# Altium integrated library J-Crystal.IntLib: 102 symbols
Pins are listed as number, name and electrical type; pins without a type are passive.

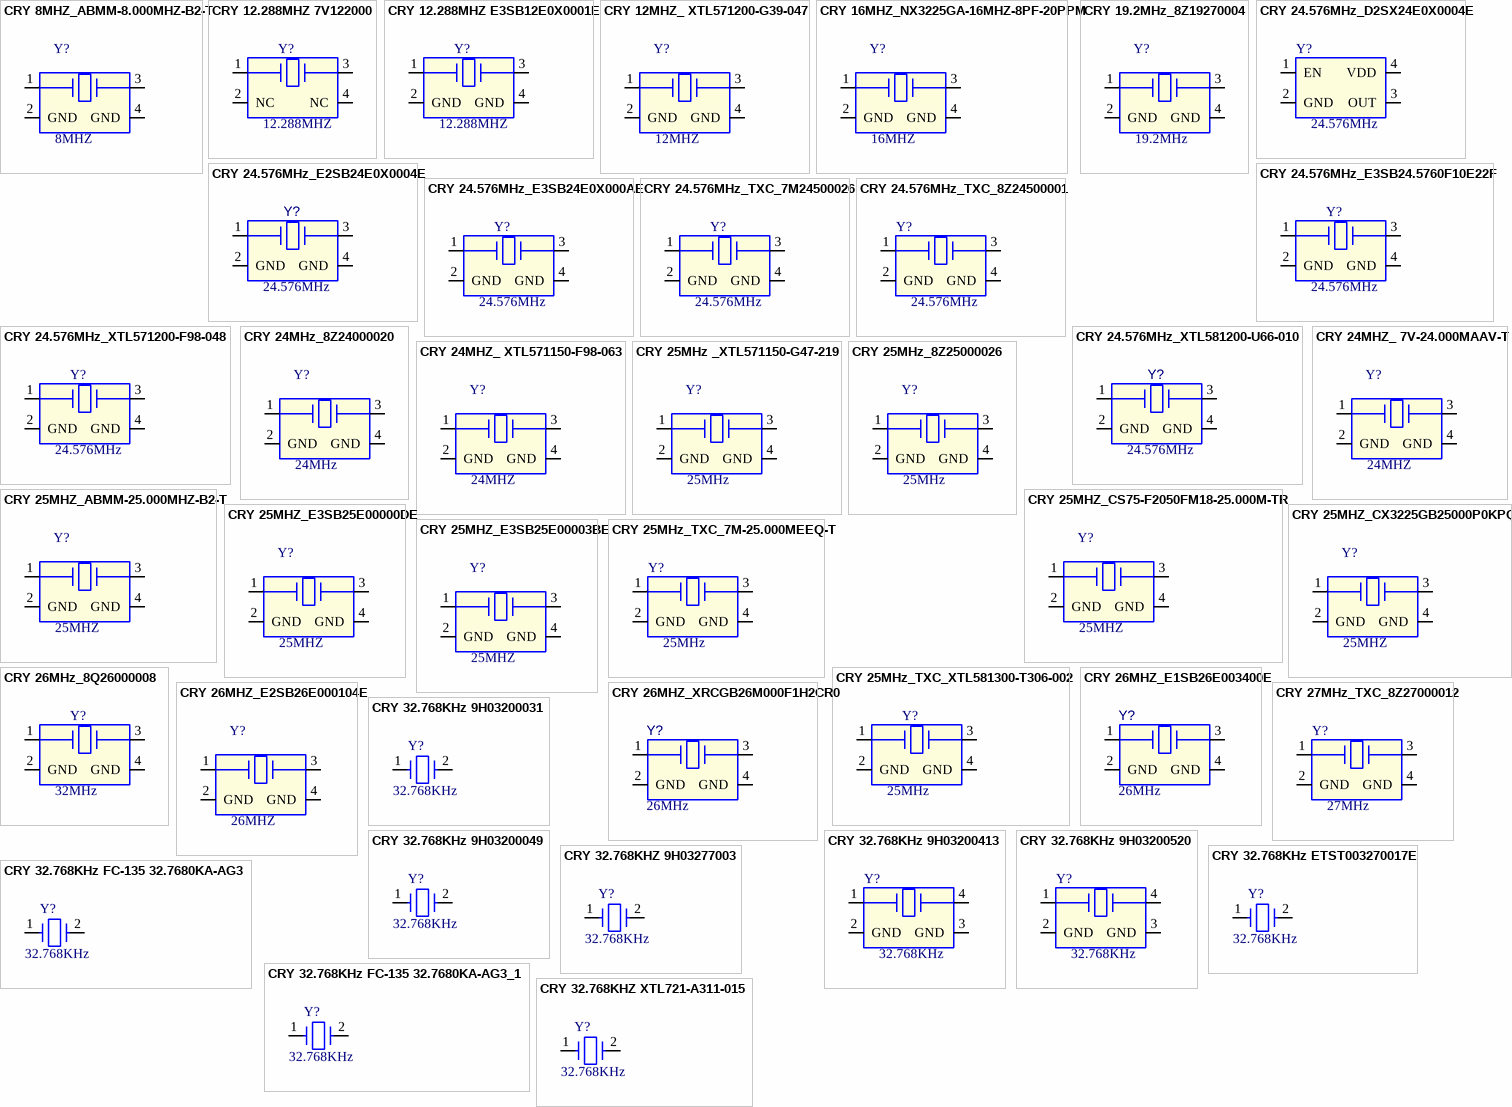
[diagram p0: symbols CRY 8MHZ_ABMM-8.000MHZ-B2-T to CRY 32.768KHZ XTL721-A311-015]

## CRY 8MHZ_ABMM-8.000MHZ-B2-T
designator Y?  Frequency: 8MHZ
CRYSTAL 8MHZ; MFG Part: ABMM-8.000MHZ-B2-T; MFG: ABRACON; CREATE_NAME: Nathan; DIP&SMD: SMD; SAP: *; Vendor Code: *; Vendor Name: *; Frequency Tolerance: *; Eqivalent resistance: *; Type: Crystal; Capacitance: *; CREATE_TIME: 03-Mar-2021
footprint CRY ABMM SMD 7.0X5.0X1.3 (SMD 7.2 Max. X5.2 Max..X1.3 Max.)
pins: 1 Xtal, 2 GND, 3 Xtal, 4 GND

## CRY 12.288MHZ 7V122000
designator Y?, comment Frequency: 12.288MHZ  (hidden comment: T690900013300)
CRYSTAL 12.288MH SMD32 TXC 7V1220 K; MFG Part: 7V122000; CREATE_NAME: Nathan; DIP&SMD: SMD; SAP: T690900013300; MFG: TXC; Vendor Code: *; Vendor Name: *; Frequency Tolerance: *; Eqivalent resistance: *; Type: Crystal; Capacitance: *; CREATE_TIME: 10-Nov-2017
footprint SMD3225 (CHIP OSCILLATOR SMD3225\3.2*2.5MM)
pins: 1, 2 NC, 3, 4 NC

## CRY 12.288MHZ E3SB12E0X0001E
designator Y?  Frequency: 12.288MHZ  (hidden comment: *)
CRYSTAL 12.288MH SMD32 E3SB12E0X0001E; MFG: HOSONIC; CREATE_NAME: Nathan; DIP&SMD: SMD; SAP: *; MFG Part: E3SB12E0X0001E; Vendor Code: *; Vendor Name: *; Frequency Tolerance: *; Eqivalent resistance: *; Type: Crystal; Capacitance: *; CREATE_TIME: 21-Jul-2020
footprint SMD3225 (CHIP OSCILLATOR SMD3225\3.2*2.5MM)
pins: 1, 2 GND, 3, 4 GND

## CRY 12MHZ_ XTL571200-G39-047
designator Y?, comment Frequency: 12MHZ  (hidden comment: T690900009300)
CERAMAIC 12MHZ SX322 SIWARD XTL571 H; MFG Part: XTL571200-G39-047; CREATE_NAME: Nathan; DIP&SMD: SMD; SAP: T690900009300; MFG: SIWARD; Vendor Code: *; Vendor Name: *; Frequency Tolerance: *; Eqivalent resistance: *; Type: Crystal; Capacitance: *; CREATE_TIME: 15-Mar-2017
footprint SMD3225 (CHIP OSCILLATOR SMD3225\3.2*2.5MM)
pins: 1, 2 GND, 3, 4 GND

## CRY 16MHZ_NX3225GA-16MHZ-8PF-20PPM
designator Y?, comment Frequency: 16MHZ  (hidden comment: T690900000400)
CRYSTAL 16MHZ SMD NDK NX3225 K; MFG Part: NX3225GA-16MHZ-8PF-20PPM; CREATE_NAME: Nathan; SAP: T690900000400; MFG: NDK; Vendor Code: *; Vendor Name: *; Frequency Tolerance: *; Eqivalent resistance: *; Type: Crystal; Capacitance: *; CREATE_TIME: 29-Dec-2020; DIP&SMD: SMD
footprint SMD3225 (CHIP OSCILLATOR SMD3225\3.2*2.5MM)
pins: 1, 2 GND, 3, 4 GND

## CRY 19.2MHz_8Z19270004
designator Y?, comment Frequency: 19.2MHz  (hidden comment: T690900017400)
CRYSTAL 19.2MHZ 2520 TXC 8Z1927 K; MFG Part: 8Z19270004; MFG: TXC CORP; CREATE_NAME: Nathan; DIP&SMD: SMD; SAP: T690900017400; Vendor Code: *; Vendor Name: *; Frequency Tolerance: *; Eqivalent resistance: *; Type: Crystal; Capacitance: *; CREATE_TIME: 17-Aug-2018
footprint SMD2520 (OSC Body 2.5mm X 2.0mm)
pins: 1, 2 GND, 3, 4 GND

## CRY 24.576MHz_D2SX24E0X0004E
designator Y?, comment Frequency: 24.576MHz  (hidden comment: T690900023000)
OSC 24.576MH SMD2520 +/-25ppm HOSONIC D2SX24E0X0004E  L; Frequency Tolerance: 25ppm; CREATE_NAME: Tom; DIP&SMD: SMD; SAP: T690900023000; MFG Part: D2SX24E0X0004E; MFG: HOSONIC; Vendor Code: *; Vendor Name: *; Type: Crystal; CREATE_TIME: 11-May-2020
footprint SMD2520 (OSC Body 2.5mm X 2.0mm)
pins: 1 EN, 2 GND, 3 OUT, 4 VDD

## CRY 24.576MHz_E2SB24E0X0004E
designator Y?  Frequency: 24.576MHz
CHIP CRYSTAL 24.576MHZ SMD2520; MFG Part: E2SB24E0X0004E; MFG: HOSONIC; CREATE_NAME: Nathan; DIP&SMD: SMD; SAP: *; Vendor Code: *; Vendor Name: *; Type: Crystal; CREATE_TIME: 29-Oct-2020
footprint SMD2520 (OSC Body 2.5mm X 2.0mm)
pins: 1, 2 GND, 3, 4 GND

## CRY 24.576MHz_E3SB24.5760F10E22F
designator Y?  Frequency: 24.576MHz  (hidden comment: *)
CRYSTAL 24.576MH 3225 E3SB24.5760F10E22F; MFG: TXC; Frequency Tolerance: Hosonic; CREATE_NAME: Nathan; DIP&SMD: SMD; SAP: *; MFG Part: E3SB24.5760F10E22F; Vendor Code: *; Vendor Name: *; Type: Crystal; CREATE_TIME: 08-Jul-2020
footprint SMD3225 (CHIP OSCILLATOR SMD3225\3.2*2.5MM)
pins: 1, 2 GND, 3, 4 GND

## CRY 24.576MHz_E3SB24E0X000AE
designator Y?  Frequency: 24.576MHz
CRYSTAL 24.576MH 3225 E3SB24E0X000AE; MFG: HOSONIC; CREATE_NAME: Nathan; DIP&SMD: SMD; SAP: *; MFG Part: E3SB24E0X000AE; Vendor Code: *; Vendor Name: *; Frequency Tolerance: *; Type: Crystal; CREATE_TIME: 12-Nov-2020
footprint SMD3225 (CHIP OSCILLATOR SMD3225\3.2*2.5MM)
pins: 1, 2 GND, 3, 4 GND

## CRY 24.576MHz_TXC_7M24500026
designator Y?, comment Frequency: 24.576MHz  (hidden comment: T690900019400)
CRYSTAL 24.576MH 3225 TXC 7M2450 L; MFG Part: 7M24500026; Frequency Tolerance: +/-30ppm; CREATE_NAME: Nathan; DIP&SMD: SMD; SAP: T690900019400; MFG: TXC; Vendor Code: *; Vendor Name: *; Type: Crystal; CREATE_TIME: 16-Apr-2019
footprint SMD3225 (CHIP OSCILLATOR SMD3225\3.2*2.5MM)
pins: 1, 2 GND, 3, 4 GND

## CRY 24.576MHz_TXC_8Z24500001
designator Y?, comment Frequency: 24.576MHz  (hidden comment: T690900023400)
CRISTAL 24.576MH SMD TXC 8Z2450 L; MFG Part: 8Z24500001; Frequency Tolerance: +/-20ppm; CREATE_NAME: Nathan; SAP: T690900023400; MFG: TXC; Vendor Code: *; Vendor Name: *; Type: Crystal; CREATE_TIME: 28-May-2020; DIP&SMD: SMD
footprint SMD2520 (OSC Body 2.5mm X 2.0mm)
pins: 1, 2 GND, 3, 4 GND

## CRY 24.576MHz_XTL571200-F98-048
designator Y?, comment Frequency: 24.576MHz  (hidden comment: T690900003500)
CRYSTAL 24.576MH SMD SIWARD XTL571200-F98-048 G; CREATE_NAME: Nathan; SAP: T690900003500; MFG Part: XTL571200-F98-048; MFG: SIWARD; Vendor Code: *; Vendor Name: *; Frequency Tolerance: *; Eqivalent resistance: *; Type: Crystal; Capacitance: *; CREATE_TIME: 21-Feb-2017; DIP&SMD: SMD
footprint SMD3225 (CHIP OSCILLATOR SMD3225\3.2*2.5MM)
pins: 1, 2 GND, 3, 4 GND

## CRY 24.576MHz_XTL581200-U66-010
designator Y?, comment Frequency: 24.576MHz  (hidden comment: T690900007200)
CRYSTAL 24.576 M SX-25 SIWARD XTL581 L; MFG Part: XTL581200-U66-010; CREATE_NAME: Nathan; DIP&SMD: SMD; SAP: T690900007200; Vendor Code: *; Vendor Name: *; MFG: SIWARD; Type: Crystal; CREATE_TIME: 13-MAR-2017
footprint SMD2520 (OSC Body 2.5mm X 2.0mm)
pins: 1, 2 GND, 3, 4 GND

## CRY 24MHz_8Z24000020
designator Y?, comment Frequency: 24MHz  (hidden comment: T690900019100)
CRYSTAL 24MHZ 2520 TXC 8Z2400 L; MFG Part: 8Z24000020; Frequency Tolerance: +/-10ppm; Eqivalent resistance: 50 ohm; Load Capacitance: 10pF; CREATE_NAME: Nathan; DIP&SMD: SMD; SAP: T690900019100; MFG: TXC; Vendor Code: *; Vendor Name: *; Type: Crystal; CREATE_TIME: 02-Apr-2019
footprint SMD2520 (OSC Body 2.5mm X 2.0mm)
pins: 1, 2 GND, 3, 4 GND

## CRY 24MHZ_ 7V-24.000MAAV-T
designator Y?  Frequency: 24MHZ  (hidden comment: *)
XTL, 24MHZ, 30PPM, 8PF, SM; MFG Part: 7V-24.000MAAV-T; MFG: TXC; CREATE_NAME: Nathan; DIP&SMD: SMD; SAP: *; Vendor Code: *; Vendor Name: *; Frequency Tolerance: *; Eqivalent resistance: *; Type: Crystal; Capacitance: *; CREATE_TIME: 27-Aug-2020
footprint SMD3225 (CHIP OSCILLATOR 11.2896MHZ SMD3225 +/-25ppm)
pins: 1, 2 GND, 3, 4 GND

## CRY 24MHZ_ XTL571150-F98-063
designator Y?, comment Frequency: 24MHZ  (hidden comment: T690900009100)
CERAMAIC 24MHZ SX322 SIWARD XTL571 H; MFG Part: XTL571150-F98-063; CREATE_NAME: Nathan; DIP&SMD: SMD; SAP: T690900009100; MFG: SIWARD; Vendor Code: *; Vendor Name: *; Frequency Tolerance: *; Eqivalent resistance: *; Type: Crystal; Capacitance: *; CREATE_TIME: 15-Mar-2017
footprint SMD3225 (CHIP OSCILLATOR 11.2896MHZ SMD3225 +/-25ppm)
pins: 1, 2 GND, 3, 4 GND

## CRY 25MHz _XTL571150-G47-219
designator Y?, comment Frequency: 25MHz  (hidden comment: T690900009200)
CERAMAIC 25MHZ SX322 SIWARD XTL571 L; MFG Part: XTL571150-G47-219; CREATE_NAME: Nathan; DIP&SMD: SMD; SAP: T690900009200; MFG: SIWARD; Vendor Code: *; Vendor Name: *; Frequency Tolerance: *; Eqivalent resistance: *; Type: Crystal; Capacitance: *; CREATE_TIME: 15-Mar-2017
footprint SMD3225 (CHIP OSCILLATOR 11.2896MHZ SMD3225 +/-25ppm)
pins: 1, 2 GND, 3, 4 GND

## CRY 25MHz_8Z25000026
designator Y?, comment Frequency: 25MHz  (hidden comment: T690900016700)
CRISTAL 25MHZ SMD TXC 8Z2500 K; MFG Part: 8Z25000026; MFG: TXC CORP; CREATE_NAME: Nathan; SAP: T690900016700; Vendor Code: *; Vendor Name: *; Frequency Tolerance: *; Eqivalent resistance: *; Type: Crystal; Capacitance: *; CREATE_TIME: 17-July-2018; DIP&SMD: SMD
footprint SMD2520 (OSC Body 2.5mm X 2.0mm)
pins: 1, 2 GND, 3, 4 GND

## CRY 25MHZ_ABMM-25.000MHZ-B2-T
designator Y?  Frequency: 25MHZ  (hidden comment: *)
CRYSTAL 25MHZ; MFG Part: ABMM-25.000MHZ-B2-T; MFG: ABRACON; CREATE_NAME: Nathan; DIP&SMD: SMD; SAP: *; Vendor Code: *; Vendor Name: *; Frequency Tolerance: *; Eqivalent resistance: *; Type: Crystal; Capacitance: *; CREATE_TIME: 11-Sep-2020
footprint CRY ABMM SMD 7.0X5.0X1.3 (SMD 7.2 Max. X5.2 Max..X1.3 Max.)
pins: 1 Xtal, 2 GND, 3 Xtal, 4 GND

## CRY 25MHZ_CS75-F2050FM18-25.000M-TR
designator Y?  Frequency: 25MHZ
CS75-F2050FM18-25.000M-TR; MFG: Transko Electronics; CREATE_NAME: Nathan; DIP&SMD: SMD; SAP: *; MFG Part: CS75-F2050FM18-25.000M-TR; Vendor Code: *; Vendor Name: *; Frequency Tolerance: *; Eqivalent resistance: *; Type: Crystal; Capacitance: *; CREATE_TIME: 20-Jan-2021
footprint CRY CS75 SMD 7.0X5.0X1.1 (MINIATURE CERAMIC SMD CRYSTAL (7.0 x 5.0 x 1.1mm))
pins: 1, 2 GND, 3, 4 GND

## CRY 25MHZ_CX3225GB25000P0KPQCC
designator Y?  Frequency: 25MHZ  (hidden comment: *)
QUARTZ 25MHZ 30PPM 18 3.2x2.5; MFG Part: CX3225GB25000P0KPQCC; MFG: kyocera; CREATE_NAME: Cherry; DIP&SMD: SMD; SAP: *; Vendor Code: *; Vendor Name: *; Frequency Tolerance: *; Eqivalent resistance: *; Type: Crystal; Capacitance: *; CREATE_TIME: 2020-06-22
footprint SMD3225 (CHIP OSCILLATOR SMD3225\3.2*2.5MM)
pins: 1, 2 GND, 3, 4 GND

## CRY 25MHZ_E3SB25E00000DE
designator Y?  Frequency: 25MHZ  (hidden comment: *)
QUARTZ 25MHZ 3.2x2.5; MFG Part: E3SB25E00000DE; MFG: HOSONIC; CREATE_NAME: Nathan; DIP&SMD: SMD; SAP: *; Vendor Code: *; Vendor Name: *; Frequency Tolerance: *; Eqivalent resistance: *; Type: Crystal; Capacitance: *; CREATE_TIME: 18-Aug-2020
footprint SMD3225 (CHIP OSCILLATOR SMD3225\3.2*2.5MM)
pins: 1, 2 GND, 3, 4 GND

## CRY 25MHZ_E3SB25E00003BE
designator Y?  Frequency: 25MHZ  (hidden comment: *)
QUARTZ 25MHZ 3.2x2.5; MFG Part: E3SB25E00003BE; MFG: HOSONIC; CREATE_NAME: Nathan; DIP&SMD: SMD; SAP: *; Vendor Code: *; Vendor Name: *; Frequency Tolerance: *; Eqivalent resistance: *; Type: Crystal; Capacitance: *; CREATE_TIME: 18-Aug-2020
footprint SMD3225 (CHIP OSCILLATOR SMD3225\3.2*2.5MM)
pins: 1, 2 GND, 3, 4 GND

## CRY 25MHz_TXC_7M-25.000MEEQ-T
designator Y?  Frequency: 25MHz  (hidden comment: *)
CRYSTAL 25MH 3225 TXC 7M-25.000MEEQ-T; Frequency Tolerance: +/-10ppm; CREATE_NAME: Nathan; DIP&SMD: SMD; SAP: *; MFG Part: 7M-25.000MEEQ-T; MFG: TXC; Vendor Code: *; Vendor Name: *; Type: Crystal; CREATE_TIME: 22-Jun-2020
footprint SMD3225 (CHIP OSCILLATOR SMD3225\3.2*2.5MM)
pins: 1, 2 GND, 3, 4 GND

## CRY 25MHz_TXC_XTL581300-T306-002
designator Y?, comment Frequency: 25MHz  (hidden comment: T690900006600)
CRISTAL 25MHZ+30 SMD SIWARD XTL581 L; MFG Part: XTL581300-T306-002; Frequency Tolerance: 30ppm; CREATE_NAME: Tom; SAP: T690900006600; MFG: SIWARD; Vendor Code: *; Vendor Name: *; Type: Crystal; CREATE_TIME: 27-Aug-2019; DIP&SMD: SMD
footprint SMD2520 (OSC Body 2.5mm X 2.0mm)
pins: 1, 2 GND, 3, 4 GND

## CRY 26MHz_8Q26000008
designator Y?, comment Frequency: 32MHz  (hidden comment: T690900023700)
CRYSTAL 26MHZ 1612 TXC 8Q2600 L; MFG Part: 8Q26000008; CREATE_NAME: Nathan; DIP&SMD: SMD; SAP: T690900023700; MFG: TXC; Vendor Code: *; Vendor Name: *; Frequency Tolerance: *; Type: Crystal; CREATE_TIME: 22-Jun-2020
footprint SMD1612
pins: 1, 2 GND, 3, 4 GND

## CRY 26MHZ_E1SB26E003400E
designator Y?  Frequency: 26MHz  (hidden comment: *)
CRYSTAL 26.00MHZ 2016 E1SB26E003400E; MFG: HOSONIC; DIP&SMD: SMD; Creat Name: Nathan; SAP: *; MFG Part: E1SB26E003400E; Type: Crystal; Creat Time: 07-Sep-2020
footprint SMD2016 (OSC Body 2.0mm X 1.6mm)
pins: 1, 2 GND, 3, 4 GND

## CRY 26MHZ_E2SB26E000104E
designator Y?, comment Frequency: 26MHZ  (hidden comment: T690900014600)
CRYSTAL 26MHZ SMD HOSONI E2SB26 L; MFG Part: E2SB26E000104E; MFG: HOSONIC; Frequency Tolerance: +/-7ppm; ESR: 30ohm; CL: 12pF; CREATE_NAME: Nathan; SAP: T690900014600; Vendor Code: *; Vendor Name: *; Type: Crystal; CREATE_TIME: 09-Feb-2018; DIP&SMD: SMD
footprint SMD2520 (OSC Body 2.5mm X 2.0mm)
pins: 1, 2 GND, 3, 4 GND

## CRY 26MHZ_XRCGB26M000F1H2CR0
designator Y?  Frequency: 26MHz  (hidden comment: *)
CRYSTAL 26.00MHZ 2016 XRCGB26M000F1H2CR0; MFG: Murata; DIP&SMD: SMD; Creat Name: Nathan; SAP: *; MFG Part: XRCGB26M000F1H2CR0; Type: Crystal; Creat Time: 27-Nov-2020
footprint SMD2016 (OSC Body 2.0mm X 1.6mm)
pins: 1, 2 GND, 3, 4 GND

## CRY 27MHz_TXC_8Z27000012
designator Y?, comment Frequency: 27MHz  (hidden comment: T690900023300)
CRISTAL 27MHZ SMD TXC 8Z2700 L; MFG Part: 8Z27000012; Frequency Tolerance: +/-10ppm; CREATE_NAME: Nathan; SAP: T690900023300; MFG: TXC; Vendor Code: *; Vendor Name: *; Type: Crystal; CREATE_TIME: 28-May-2020; DIP&SMD: SMD
footprint SMD2520 (OSC Body 2.5mm X 2.0mm)
pins: 1, 2 GND, 3, 4 GND

## CRY 32.768KHz 9H03200031
designator Y?, comment Frequency: 32.768KHz  (hidden comment: T690900015400)
CRYSTAL 32.768KH SMD TXC 9H0320 K; MFG Part: 9H03200031; CREATE_NAME: Nathan; SAP: T690900015400; MFG: TXC; Type: Crystal; CREATE_TIME: 10-Apr-2019; DIP&SMD: SMD
footprint SMD3215-2P
pins: 1, 2

## CRY 32.768KHz 9H03200049
designator Y?  Frequency: 32.768KHz
CRYSTAL 32.768KH SMD TXC 9H03200049; CREATE_NAME: Nathan; SAP: *; MFG Part: 9H03200049; MFG: TXC; Type: Crystal; CREATE_TIME: 23-Feb-2021; DIP&SMD: SMD
footprint SMD1610-2P
pins: 1, 2

## CRY 32.768KHz 9H03200413
designator Y?, comment Frequency: 32.768KHz  (hidden comment: T690900008900)
OSCILATOR 32.768KH SMD TXC 9H03200413 G; CREATE_NAME: Tom; SAP: T690900008900; MFG Part: 9H03200413; MFG: TXC; Type: Crystal; CREATE_TIME: 01-Jun-2016; DIP&SMD: SMD
footprint CRY 9H03200413
pins: 1, 2 GND, 3 GND, 4

## CRY 32.768KHz 9H03200520
designator Y?  Frequency: 32.768KHz
CRYSTAL 32.768KH SMD TXC 9H0320 K; MFG Part: 9H03200520; SAP: T690900011400; CREATE_NAME: Nathan; MFG: TXC; Type: Crystal; CREATE_TIME: 23-Dec-2020; DIP&SMD: SMD
footprint CRY SSP-T7 (L6.9XW1.4 H1.3mm)
pins: 1, 2 GND, 3 GND, 4

## CRY 32.768KHZ 9H03277003
designator Y?, comment Frequency: 32.768KHz  (hidden comment: T690900021900)
CRYSTAL 32.768KH SMD TXC 9H0327 K; MFG Part: 9H03277003; CREATE_NAME: Tom; SAP: T690900021900; MFG: TXC; Vendor Code: *; Vendor Name: *; Frequency Tolerance: *; Eqivalent resistance: *; Type: Crystal; Capacitance: *; CREATE_TIME: 16-Dec-2019; DIP&SMD: SMD
footprint SF-3215 (SXD-00281) (OSC Body 3.2*1.5)
pins: 1, 2

## CRY 32.768KHz ETST003270017E
designator Y?  Frequency: 32.768KHz  (hidden comment: *)
CRYSTAL, 32.768KHZ, ETST003270017E, HOSONIC; CREATE_NAME: Nathan; DIP&SMD: SMD; SAP: *; MFG Part: ETST003270017E; MFG: HOSONIC; Type: Crystal; CREATE_TIME: 27-Aug-2020
footprint SMD3215-2P
pins: 1, 2

## CRY 32.768KHz FC-135 32.7680KA-AG3
designator Y?  Frequency: 32.768KHz  (hidden comment: *)
XTL, 32.768KHZ, 20PPM, 7PF, SM; MFG Part: FC-135 32.7680KA-AG3; MFG: EPSON; CREATE_NAME: Nathan; DIP&SMD: SMD; SAP: *; Type: Crystal; CREATE_TIME: 27-Aug-2020
footprint SMD3215-2P
pins: 1, 2

## CRY 32.768KHz FC-135 32.7680KA-AG3_1
designator Y?  Frequency: 32.768KHz  (hidden comment: *)
XTL, 32.768KHZ, 20PPM, 7PF, SM; MFG Part: FC-135 32.7680KA-AG3; MFG: EPSON; CREATE_NAME: Nathan; DIP&SMD: SMD; SAP: *; Type: Crystal; CREATE_TIME: 27-Aug-2020
footprint SMD3215-2P
pins: 1, 2

## CRY 32.768KHZ XTL721-A311-015
designator Y?  Frequency: 32.768KHz
CRISTAL 32.768KH SMD(3 SIWARD XTL721 L; MFG Part: XTL721-A311-015; CREATE_NAME: Nathan; SAP: *; MFG: SIWARD; Vendor Code: *; Vendor Name: *; Frequency Tolerance: *; Eqivalent resistance: *; Type: Crystal; Capacitance: *; CREATE_TIME: 05-Feb-2021; DIP&SMD: SMD
footprint SF-3215 (SXD-00281) (OSC Body 3.2*1.5)
pins: 1, 2

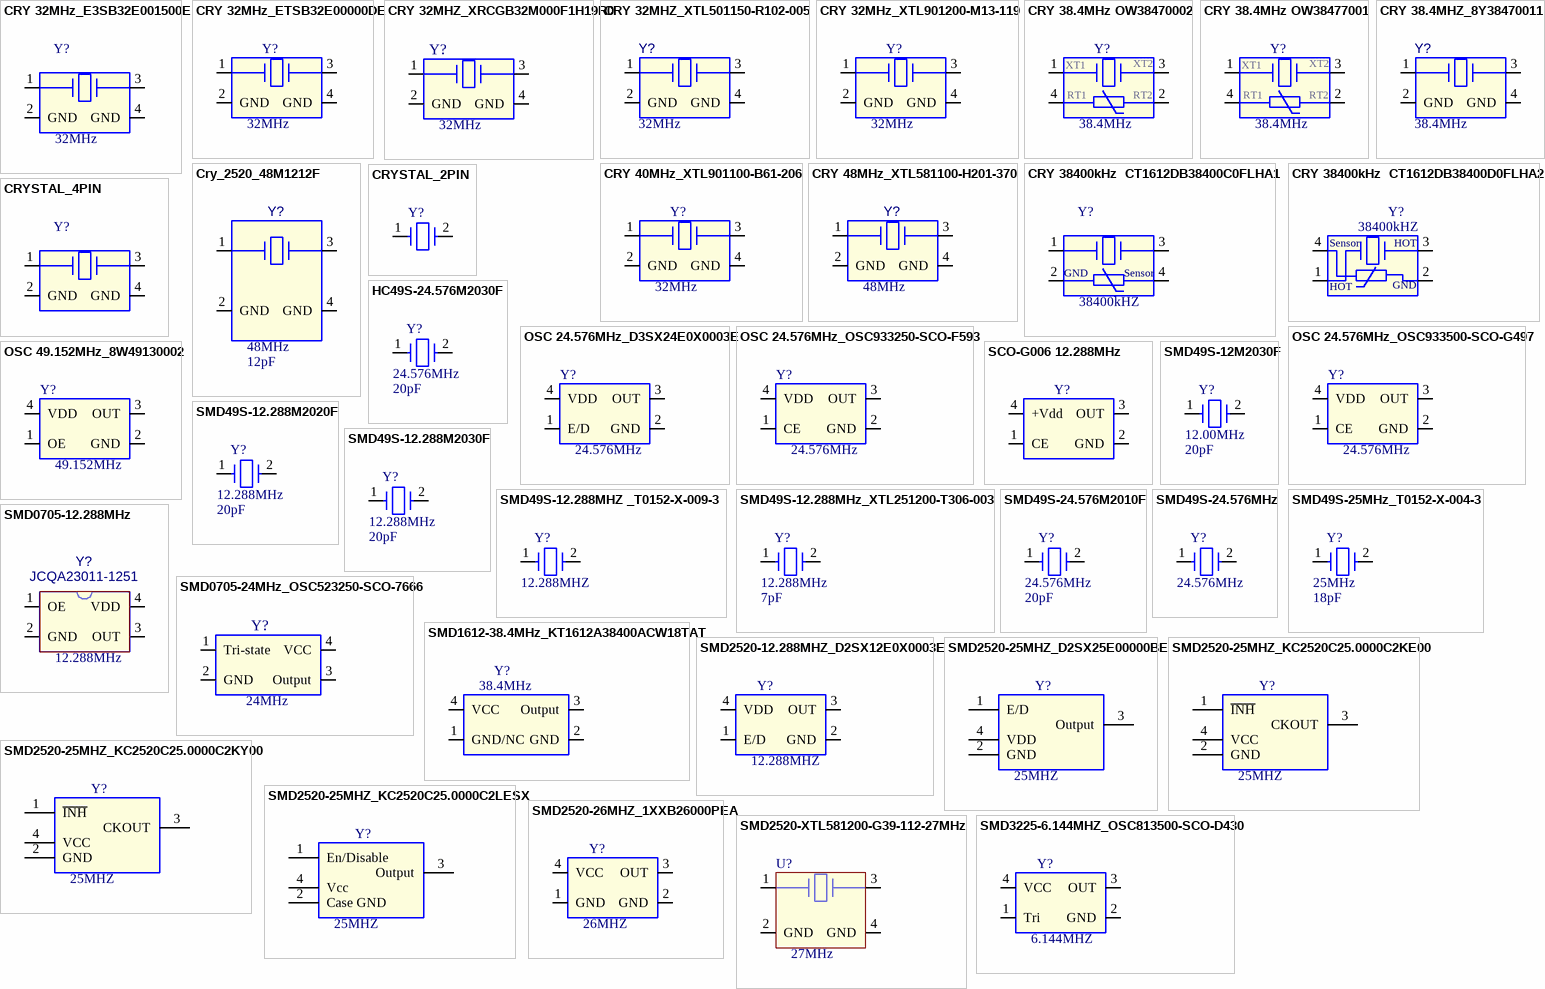
[diagram p1: symbols CRY 32MHz_E3SB32E001500E to SMD3225-6.144MHZ_OSC813500-SCO-D430]

## CRY 32MHz_E3SB32E001500E
designator Y?  Frequency: 32MHz
CRYSTAL 32MHZ 3225 HOSONI E3SB32 L; MFG Part: E3SB32E001500E; MFG: HOSONIC; CREATE_NAME: Nathan; DIP&SMD: SMD; SAP: *; Vendor Code: *; Vendor Name: *; Frequency Tolerance: *; Eqivalent resistance: *; Type: Crystal; Capacitance: *; CREATE_TIME: 24-Dec-2020
footprint SMD3225 (CHIP OSCILLATOR 11.2896MHZ SMD3225 +/-25ppm)
pins: 1, 2 GND, 3, 4 GND

## CRY 32MHz_ETSB32E00000DE
designator Y?  Frequency: 32MHz  (hidden comment: *)
CRYSTAL, 32.00MHZ, HOSONIC, ETSB32E00000DE; CREATE_NAME: Nathan; DIP&SMD: SMD; SAP: *; MFG Part: ETSB32E00000DE; MFG: HOSONIC; Vendor Code: *; Vendor Name: *; Frequency Tolerance: *; Type: Crystal; CREATE_TIME: 27-Aug-2020
footprint SMD1612
pins: 1, 2 GND, 3, 4 GND

## CRY 32MHZ_XRCGB32M000F1H19R0
designator Y?, comment Frequency: 32MHz  (hidden comment: T690900018800)
CRYSTAL 32.00MHZ SX 20 MURATA XRCGB3 K; MFG Part: XRCGB32M000F1H19R0; DIP&SMD: SMD; Creat Name: Nathan; SAP: T690900018800; MFG: MURATA; Type: Crystal; Creat Time: 04-June-2020
footprint SMD2016 (OSC Body 2.0mm X 1.6mm)
pins: 1, 2 GND, 3, 4 GND

## CRY 32MHZ_XTL501150-R102-005
designator Y?, comment Frequency: 32MHz  (hidden comment: T690900018900)
CRYSTAL 32.00MHZ 2016 SIWARD XTL501 K; MFG Part: XTL501150-R102-005; DIP&SMD: SMD; Creat Name: Nathan; SAP: T690900018900; MFG: SIWARD; Type: Crystal; Creat Time: 09-Apr-2020
footprint SMD2016 (OSC Body 2.0mm X 1.6mm)
pins: 1, 2 GND, 3, 4 GND

## CRY 32MHz_XTL901200-M13-119
designator Y?, comment Frequency: 32MHz  (hidden comment: T690900018600)
CRYSTAL 32.00MHZ SX 16 SIWARD XTL901 L; MFG Part: XTL901200-M13-119; CREATE_NAME: Tom; DIP&SMD: SMD; SAP: T690900018600; MFG: SIWARD; Vendor Code: *; Vendor Name: *; Frequency Tolerance: *; Type: Crystal; CREATE_TIME: 08-Aug-2019
footprint SMD1612
pins: 1, 2 GND, 3, 4 GND

## CRY 38.4MHz OW38470002
designator Y?  Frequency: 38.4MHz
CRYSTAL 38.4MHZ 1.6*1 TXC OW38477001 L; MFG Part: OW38470002; CREATE_NAME: Nathan; DIP&SMD: SMD; SAP: *; MFG: TXC; Vendor Code: *; Vendor Name: *; Frequency Tolerance: *; Eqivalent resistance: *; Type: Crystal; Capacitance: *; CREATE_TIME: 07-Apr-2020
footprint SMD1612_W/THERMISTOR (Footprint not found)
pins: 1 XT1, 2 RT2, 3 XT2, 4 RT1

## CRY 38.4MHz OW38477001
designator Y?  Frequency: 38.4MHz
CRYSTAL 38.4MHZ 1.6*1 TXC OW38477001 L; CREATE_NAME: Nathan; DIP&SMD: SMD; SAP: *; MFG Part: OW38477001; MFG: TXC; Vendor Code: *; Vendor Name: *; Frequency Tolerance: *; Eqivalent resistance: *; Type: Crystal; Capacitance: *; CREATE_TIME: 06-Jan-2020
footprint SMD1612_W/THERMISTOR (Footprint not found)
pins: 1 XT1, 2 RT2, 3 XT2, 4 RT1

## CRY 38.4MHZ_8Y38470011
designator Y?  Frequency: 38.4MHz  (hidden comment: *)
CRYSTAL 38.400000MHZ 2016 8Y38470011(A1); MFG: TXC; DIP&SMD: SMD; Creat Name: Nathan; SAP: *; MFG Part: 8Y38470011(A1); Type: Crystal; Creat Time: 27-Oct-2020
footprint SMD2016 (OSC Body 2.0mm X 1.6mm)
pins: 1, 2 GND, 3, 4 GND

## CRY 40MHz_XTL901100-B61-206
designator Y?  Frequency: 32MHz
CRYSTAL 40MHZ SX 16 SIWARD XTL901 K; MFG Part: XTL901100-B61-206; CREATE_NAME: Nathan; DIP&SMD: SMD; SAP: *; MFG: SIWARD; Vendor Code: *; Vendor Name: *; Frequency Tolerance: *; Type: Crystal; CREATE_TIME: 05-Feb-2021
footprint SMD1612
pins: 1, 2 GND, 3, 4 GND

## CRY 48MHz_XTL581100-H201-370
designator Y?, comment Frequency: 48MHz  (hidden comment: T690900007300)
CRYSTAL 48 MHZ SMD SIWARD XTL581 L; MFG Part: XTL581100-H201-370; CREATE_NAME: Nathan; SAP: T690900007300; Vendor Code: *; Vendor Name: *; MFG: SIWARD; Type: Crystal; CREATE_TIME: 25-Apr-2019; DIP&SMD: SMD
footprint SMD2520 (OSC Body 2.5mm X 2.0mm)
pins: 1, 2 GND, 3, 4 GND

## CRY 38400kHz  CT1612DB38400C0FLHA1
designator Y?, comment Frequency: 38400kHZ  (hidden comment: T690900020800)
CRYSTAL 38.4MHZ 1612 KYOCER CT1612 L; MFG Part: CT1612DB38400C0FLHA1; MFG: KYOCERA; Capacitance: 7pF; CREATE_NAME: Nathan; DIP&SMD: SMD; SAP: T690900020800; Vendor Code: *; Vendor Name: *; Frequency Tolerance: *; Eqivalent resistance: *; Type: Crystal; CREATE_TIME: 28-Jun-2019
footprint SMD1612_W/THERMISTOR (Footprint not found)
pins: 1 HOT, 2 GND, 3 HOT, 4 SENSOR
text: Sensor

## CRY 38400kHz  CT1612DB38400D0FLHA2
designator Y?  Frequency: 38400kHZ
CRYSTAL 38.4MHZ 1612 KYOCER CT1612 L; MFG Part: CT1612DB38400D0FLHA2; MFG: KYOCERA; Capacitance: 8pF; CREATE_NAME: Nathan; DIP&SMD: SMD; SAP: *; Vendor Code: *; Vendor Name: *; Frequency Tolerance: *; Eqivalent resistance: *; Type: Crystal; CREATE_TIME: 23-Oct-2020
footprint SMD1612_W/THERMISTOR (Footprint not found)
pins: 1 HOT, 2 GND, 3 HOT, 4 SENSOR
text: Sensor

## Cry_2520_48M1212F
designator Y?, comment Capacitance: 12pF  Frequency: 48MHz  (hidden comment: JCQA41001-4860)
CHIP CRYSTAL 48MHz CL=12pF/+-12ppm; MFG Part: Cry_2520_48M1212F; SAP: T690900000100; Vendor Code: 10020356; Vendor Name: 汉稁（香港）电子有限公司; MFG: YXC; Frequency Tolerance: +/-12ppm; Eqivalent resistance: 60ohm; DIP&SMD: SMD; Type: Crystal
footprint SMD2520 (OSC Body 2.5mm X 2.0mm)
pins: 1, 2 GND, 3, 4 GND

## CRYSTAL_2PIN
designator Y?
pins: 1, 2

## CRYSTAL_4PIN
designator Y?
pins: 1, 2 GND, 3, 4 GND

## HC49S-24.576M2030F
designator Y?, comment Frequency: 24.576MHz  Capacitance: 20pF  (hidden comment: JCQ003001-2461)
CRY.CITIZEN:CM309S24.576MABJTR 30ppm; MFG Part: HC49S-24.576M2030F; SAP: T690900003000; MFG: 宏世合; Vendor Code: 10020356; Vendor Name: 汉稁（香港）电子有限公司; Frequency Tolerance: +/-30ppm; Eqivalent resistance: 40ohm; DIP&SMD: DIP; Type: Crystal
footprint HC49S (OSC Pitch 4.88mm Body 11.5mm X 5.00mm Max H3.5mm Max)
pins: 1, 2

## OSC 24.576MHz_D3SX24E0X0003E
designator Y?  Frequency: 24.576MHz
OSC 24.576MHz D3SX24E0X0003E; MFG: HOSONIC; CREATE_NAME: Nathan; DIP&SMD: SMD; SAP: *; MFG Part: D3SX24E0X0003E; Vendor Code: *; Vendor Name: *; Frequency Tolerance: *; Type: Crystal; CREATE_TIME: 09-Apr-2021
footprint SMD3225 (CHIP OSCILLATOR SMD3225\3.2*2.5MM)
pins: 1 E/D, 2 GND, 3 OUT, 4 VDD

## OSC 24.576MHz_OSC933250-SCO-F593
designator Y?  Frequency: 24.576MHz
OSC 24.576MHz SCO-2520; MFG Part: OSC933250-SCO-F593; MFG: SIWARD; CREATE_NAME: Nathan; DIP&SMD: SMD; SAP: *; Vendor Code: *; Vendor Name: *; Frequency Tolerance: *; Type: Crystal; CREATE_TIME: 18-Mar-2021
footprint SMD2520 (OSC Body 2.5mm X 2.0mm)
pins: 1 CE, 2 GND, 3 OUT, 4 VDD

## OSC 24.576MHz_OSC933500-SCO-G497
designator Y?  Frequency: 24.576MHz
OSC 24.576MHz SCO-2520; MFG Part: OSC933500-SCO-G497; MFG: SIWARD; CREATE_NAME: Nathan; DIP&SMD: SMD; SAP: *; Vendor Code: *; Vendor Name: *; Frequency Tolerance: *; Type: Crystal; CREATE_TIME: 06-Nov-2020
footprint SMD2520 (OSC Body 2.5mm X 2.0mm)
pins: 1 CE, 2 GND, 3 OUT, 4 VDD

## OSC 49.152MHz_8W49130002
designator Y?  Frequency: 49.152MHz
OSCILATOR 49.152MHZ SMD TXC 8W49130002 K; CREATE_NAME: Nathan; SAP: *; MFG Part: 8W49130002; MFG: TXC; Vendor Code: *; Vendor Name: *; Frequency Tolerance: *; Type: Crystal; CREATE_TIME: 11-Dec-2020; DIP&SMD: SMD
footprint SMD2520 (OSC Body 2.5mm X 2.0mm)
pins: 1 OE, 2 GND, 3 OUT, 4 VDD

## SCO-G006 12.288MHz
designator Y?, comment T690900007900  (value not drawn)
OSCILATOR 12.288MH SMD SIWARD OSC933 G; MFG Part: OSC933200-SCO-G006; CREATE_Name: Tom; CREATE_Time: 01-Feb-2016; MFG: SIWARD; SAP: T690900007900; Vendor Code: *; Vendor Name: *; Type: Crystal; DIP&SMD: SMD
footprint SCO-G006
pins: 1 CE, 2 GND, 3 OUT, 4 +Vdd

## SMD49S-12.288M2020F
designator Y?, comment Frequency: 12.288MHz  Capacitance: 20pF  (hidden comment: JCQA13010-1251)
SMD CHIP CRYSTAL 12.288MHz  20ppm SMD49S; MFG Part: SMD49S-12.288M2020F; SAP: T690900001700; MFG: Mobicon; Vendor Code: 10009129; Vendor Name: WING HING ENTERPRISE CO; Frequency Tolerance: +/-20ppm; Eqivalent resistance: 50ohm; Type: Crystal; DIP&SMD: SMD
footprint SMD49S (OSC Body 12.1mm X 4.8mm)
pins: 1, 2

## SMD49S-12.288M2030F
designator Y?, comment Frequency: 12.288MHz  Capacitance: 20pF  (hidden comment: JCQA13012-1251)
OSC XTAL 12.288MHZ 30PPM TOL HC49SM; MFG Part: SMD49S-12.288M2020F; SAP: T690900002100; MFG: RALTRON; Frequency Tolerance: +/-30ppm; Eqivalent resistance: 50ohm; CREATE_NAME: GordonL@Deftronics; DIP&SMD: SMD; Vendor Code: *; Vendor Name: *; Type: Crystal; CREATE_TIME: 31-MAY-2013
footprint SMD49S (OSC Body 12.1mm X 4.8mm)
pins: 1, 2

## SMD49S-12.288MHZ _T0152-X-009-3
designator Y?, comment Frequency: 12.288MHZ  (hidden comment: T690900011600)
CRYSTAL 12.288MH SMD TAITIE T0152- G; MFG Part: T0152-X-009-3; MFG: TAITIEN; CREATE_NAME: Tom; SAP: T690900011600; Frequency Tolerance: *; Type: Crystal; CREATE_TIME: 24-Feb-2017; DIP&SMD: SMD
footprint SMD49S (OSC Body 12.1mm X 4.8mm)
pins: 1, 2

## SMD49S-12.288MHz_XTL251200-T306-003
designator Y?  Frequency: 12.288MHz  Capacitance: 7pF  (hidden comment: *)
OSC XTAL 12.288MHZ HC49SM; MFG Part: XTL251200-T306-003; MFG: SIWARD; Frequency Tolerance: +/-20ppm; Eqivalent resistance: 50ohm; CREATE_NAME: Nathan; DIP&SMD: SMD; SAP: *; Vendor Code: *; Vendor Name: *; Type: Crystal; CREATE_TIME: 14-Oct-2020
footprint SMD49S (OSC Body 12.1mm X 4.8mm)
pins: 1, 2

## SMD49S-12M2030F
designator Y?, comment Frequency: 12.00MHz  Capacitance: 20pF  (hidden comment: JCQA13010-1260)
SMD CHIP CRYSTAL 12MHz  30ppm SMD49S; MFG Part: SMD49S-12M2030F; SAP: T690900001800; MFG: MEC; Vendor Code: 10009207; Vendor Name: MOBICON HOLDINGS LTD.; Frequency Tolerance: +/-30ppm; Eqivalent resistance: 40ohm; Type: Crystal; DIP&SMD: SMD
footprint SMD49S (OSC Body 12.1mm X 4.8mm)
pins: 1, 2

## SMD49S-24.576M2010F
designator Y?, comment Frequency: 24.576MHz  Capacitance: 20pF  (hidden comment: JCQA11010-2461)
SMD CRYSTA 24.576MHz 10ppm 20pF HC-49SMD; MFG Part: SMD49S-24.576M2010F; SAP: T690900003300; Vendor Code: 10009207; Vendor Name: MOBICON HOLDINGS LTD.; Frequency Tolerance: +/-10ppm; MFG: *; Eqivalent resistance: *; Type: Crystal; DIP&SMD: SMD
footprint SMD49S (OSC Body 12.1mm X 4.8mm)
pins: 1, 2

## SMD49S-24.576MHz
designator Y?, comment Frequency: 24.576MHz  (hidden comment: JCQ003001-2461)
CRY.CITIZEN:CM309S24.576MABJTR 30ppm; MFG Part: JYSD1A1G7G8-18-24.576; SAP: T690900003000; MFG: Jingyuan Electronics; Capacitance: 18pF; CREATE_NAME: Tom; DIP&SMD: SMD; Vendor Code: *; Vendor Name: *; Frequency Tolerance: 30ppm; Eqivalent resistance: *; Type: Crystal; CREATE_TIME: 07-May-2015
footprint SMD49S (OSC Body 12.1mm X 4.8mm)
pins: 1, 2

## SMD49S-25MHz_T0152-X-004-3
designator Y?, comment Frequency: 25MHz  Capacitance: 18pF  (hidden comment: JCQA12020-2560)
CRYSTAL 25MHZ SMD TAITIE T0152-X-004-3 G; SAP: T690900004000; MFG: TAITIEN; Frequency Tolerance: +/-30ppm; Eqivalent resistance: 30ohm; CREATE_NAME: Nathan; MFG Part: T0152-X-004-3; Vendor Code: *; Vendor Name: *; Type: Crystal; CREATE_TIME: 17-Aug-2015; DIP&SMD: SMD
footprint SMD49S (OSC Body 12.1mm X 4.8mm)
pins: 1, 2

## SMD0705-12.288MHz
designator Y?, comment JCQA23011-1251  Frequency: 12.288MHz
CHIP OSCILLATOR 12.288MHZ SMD0705 +/-30ppm; MFG Part: CSX-750XXX; CREATE_NAME: TOM@Deftronics; MFG: CITIZEN; SAP: T690900002600; DIP&SMD: SMD; Value: 12.288MHZ; CREATE_TIME: 11-Oct-2013; TYPE: Crystal; Vendor Code: *; Vendor Name: *
footprint SMD0705
pins: 1 OE, 2 GND, 3 OUT, 4 VDD

## SMD0705-24MHz_OSC523250-SCO-7666
designator Y?, comment Frequency: 24MHz  (hidden comment: T690900002400)
CRYSTAL 24.0MHZ SMD SIWARD OSC523 G; MFG Part: OSC523250-SCO-7666; CREATE_NAME: Nathan; SAP: T690900002400; Vendor Code: *; Vendor Name: *; MFG: SIWARD; Type: Crystal; CREATE_TIME: 30-Apr-2020; DIP&SMD: SMD
footprint SMD0705
pins: 1 Tri-state, 2 GND, 3 Output, 4 VCC

## SMD1612-38.4MHz_KT1612A38400ACW18TAT
designator Y?  Frequency: 38.4MHz  (hidden comment: *)
OSCILATOR 38.4MHZ KT1612A38400ACW18TAT; MFG: KYOCERA; CREATE_NAME: Nathan; DIP&SMD: SMD; SAP: *; MFG Part: KT1612A38400ACW18TAT; Vendor Code: *; Vendor Name: *; Frequency Tolerance: *; Eqivalent resistance: *; Type: Crystal; Capacitance: *; CREATE_TIME: 16-Sep-2020
footprint OSC KT1612A (Body Size:1.65X1.25X0.55mm)
pins: 1 GND/NC, 2 GND, 3 Output, 4 VCC

## SMD2520-12.288MHZ_D2SX12E0X0003E
designator Y?, comment Frequency: 12.288MHZ  (hidden comment: T690900014500)
OSCILATOR 12.288MH SMD HOSONI D2SX12 K; MFG Part: D2SX12E0X0003E; MFG: HOSONIC; CREATE_NAME: Nathan; SAP: T690900014500; Vendor Code: *; Vendor Name: *; Type: Crystal; CREATE_TIME: 25-Jan-2018; DIP&SMD: SMD
footprint SMD2520 (OSC Body 2.5mm X 2.0mm)
pins: 1 E/D, 2 GND, 3 OUT, 4 VDD

## SMD2520-25MHZ_D2SX25E00000BE
designator Y?  Frequency: 25MHZ  (hidden comment: *)
OSC 25MHZ SMD D2SX25E00000BE; MFG: Hosonic; CREATE_NAME: Nathan; SAP: *; MFG Part: D2SX25E00000BE; Vendor Code: *; Vendor Name: *; Type: OSC; CREATE_TIME: 26-Nov-2020; DIP&SMD: SMD
footprint SMD2520 (OSC Body 2.5mm X 2.0mm)
pins: 1 E/D, 2 GND, 3 Output, 4 VDD

## SMD2520-25MHZ_KC2520C25.0000C2KE00
designator Y?  Frequency: 25MHZ  (hidden comment: *)
OSC 25MHZ SMD KC2520C25.0000C2KE00; MFG: KYOCERA; CREATE_NAME: Nathan; SAP: *; MFG Part: KC2520C25.0000C2KE00; Vendor Code: *; Vendor Name: *; Type: Crystal; CREATE_TIME: 14-Jul-2020; DIP&SMD: SMD
footprint SMD2520 (OSC Body 2.5mm X 2.0mm)
pins: 1 ~{INH}, 2 GND, 3 CKOUT, 4 VCC

## SMD2520-25MHZ_KC2520C25.0000C2KY00
designator Y?  Frequency: 25MHZ  (hidden comment: *)
OSC 25MHZ SMD KC2520C25.0000C2KY00; MFG: KYOCERA; CREATE_NAME: Nathan; SAP: *; MFG Part: KC2520C25.0000C2KY00; Vendor Code: *; Vendor Name: *; Type: Crystal; CREATE_TIME: 10-Aug-2020; DIP&SMD: SMD
footprint SMD2520 (OSC Body 2.5mm X 2.0mm)
pins: 1 ~{INH}, 2 GND, 3 CKOUT, 4 VCC

## SMD2520-25MHZ_KC2520C25.0000C2LESX
designator Y?  Frequency: 25MHZ  (hidden comment: *)
OSC 25MHZ SMD KC2520C25.0000C2LESX; MFG: KYOCERA; CREATE_NAME: Nathan; SAP: *; MFG Part: KC2520C25.0000C2LESX; Vendor Code: *; Vendor Name: *; Type: OSC; CREATE_TIME: 26-Nov-2020; DIP&SMD: SMD
footprint SMD2520 (OSC Body 2.5mm X 2.0mm)
pins: 1 En/Disable, 2 Case GND, 3 Output, 4 Vcc

## SMD2520-26MHZ_1XXB26000PEA
designator Y?, comment Frequency: 26MHZ  (hidden comment: T690900017300)
OSC 26MHZ SMD DAISHI 1XXB26 L; MFG Part: 1XXB26000PEA; MFG: DAISHINKU; CREATE_NAME: Nathan; SAP: T690900017300; Vendor Code: *; Vendor Name: *; Type: Crystal; CREATE_TIME: 27-Mar-2020; DIP&SMD: SMD
footprint SMD2520 (OSC Body 2.5mm X 2.0mm)
pins: 1 GND, 2 GND, 3 OUT, 4 VCC

## SMD2520-XTL581200-G39-112-27MHz
designator U?, comment value 27MHz  (hidden comment: T690900007600)
QUARTZ CR 27M 2.5MM SIWARD XTL581 K; MFG Part: XTL581200-G39-112; CREATE_Name: Tom; TIPE: Crystal; DIP&SMD: SMD; CREATE_Time: 08-Mar-2016; MFG: SIWARD; SAP: T690900007600; Vendor Code: *; Vendor Name: *
footprint SMD2520 (OSC Body 2.5mm X 2.0mm)
pins: 1, 2 GND, 3, 4 GND

## SMD3225-6.144MHZ_OSC813500-SCO-D430
designator Y?, comment Frequency: 6.144MHZ  (hidden comment: T690900012700)
CRYSTAL 6.144MHZ TP-10 SIWARD OSC813 L; MFG Part: OSC813500-SCO-D430; CREATE_NAME: Nathan; DIP&SMD: SMD; SAP: T690900012700; MFG: SIWARD; Vendor Code: *; Vendor Name: *; Type: Crystal; CREATE_TIME: 26-Sep-2017
footprint SMD3225 (CHIP OSCILLATOR SMD3225\3.2*2.5MM)
pins: 1 Tri, 2 GND, 3 OUT, 4 VCC

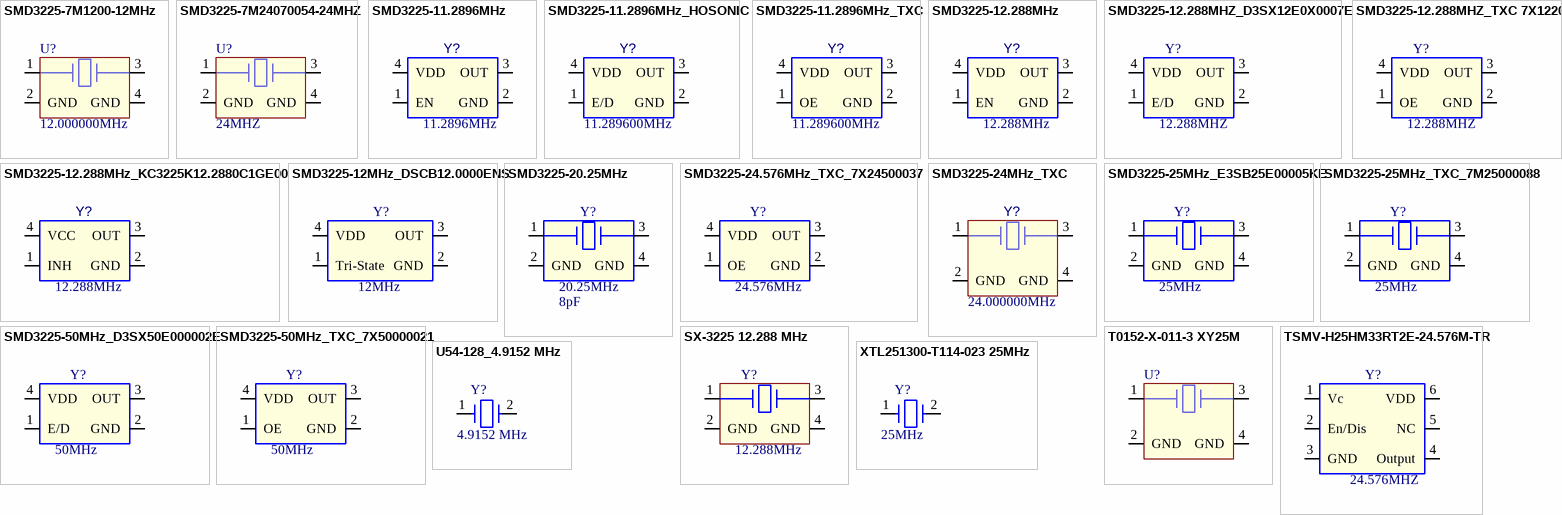
[diagram p2: symbols SMD3225-7M1200-12MHz to XTL251300-T114-023 25MHz]

## SMD3225-7M1200-12MHz
designator U?, comment Frequency: 12.000000MHz  (hidden comment: T690900008100)
CRYSTAL 12MHZ 20 SMD TXC 7M1200 G; CREATE_Name: Nathan; CREATE_Time: 23-Jul-2015; MFG: TXC; MFG Part: 7M1200; SAP: T690900008100; TIPE: Crystal; Value: *; Vendor Code: *; Vendor Name: *; DIP&SMD: SMD
footprint SMD3225 (CHIP OSCILLATOR SMD3225\3.2*2.5MM)
pins: 1, 2 GND, 3, 4 GND

## SMD3225-7M24070054-24MHZ
designator U?, comment Frequency: 24MHZ  (hidden comment: T690900019200)
CRYSTAL 24MHZ 3225 TXC 7M2407 L; MFG Part: 7M24070054; CREATE_Name: Nathan; DIP&SMD: SMD; CREATE_Time: 10-Apr-2019; MFG: TXC; SAP: T690900019200; TIPE: Crystal; Value: *; Vendor Code: *; Vendor Name: *
footprint SMD3225 (CHIP OSCILLATOR SMD3225\3.2*2.5MM)
pins: 1, 2 GND, 3, 4 GND

## SMD3225-11.2896MHz
designator Y?, comment Frequency: 11.2896MHz  (hidden comment: JCQA40010-1161)
OSC 11.2896M SMD SIWARD OSC813 K; MFG Part: OSC813250-SCO-E867; SAP: T690900002700; CREATE_NAME: TOM@Deftronica; Vendor Code: *; Vendor Name: *; MFG: SIWARD; Type: Crystal; CREATE_TIME: 18-Nov-2013; DIP&SMD: SMD
footprint SMD3225 (CHIP OSCILLATOR SMD3225\3.2*2.5MM)
pins: 1 EN, 2 GND, 3 OUT, 4 VDD

## SMD3225-11.2896MHz_HOSONIC
designator Y?, comment Frequency: 11.289600MHz  (hidden comment: T690900012000)
CRYSTAL 11.2896M SMD HOSONI D3SX11 G; MFG Part: D3SX11E0X0006E; MFG: HOSONIC; CREATE_NAME: Nathan; SAP: T690900012000; Vendor Code: *; Vendor Name: *; Type: Crystal; CREATE_TIME: 18-July-2017; DIP&SMD: SMD
footprint SMD3225 (CHIP OSCILLATOR SMD3225\3.2*2.5MM)
pins: 1 E/D, 2 GND, 3 OUT, 4 VDD

## SMD3225-11.2896MHz_TXC
designator Y?, comment Frequency: 11.289600MHz  (hidden comment: T690900008400)
OSC 11.28960 SMD TXC 7X1120 G; MFG Part: 7X11200002; CREATE_NAME: Nathan; SAP: T690900008400; Vendor Code: *; Vendor Name: *; MFG: TXC; Type: Crystal; CREATE_TIME: 28-Apr-2016; DIP&SMD: SMD
footprint SMD3225 (CHIP OSCILLATOR SMD3225\3.2*2.5MM)
pins: 1 OE, 2 GND, 3 OUT, 4 VDD

## SMD3225-12.288MHz
designator Y?, comment value 12.288MHz  (hidden comment: JCQA43012-1251)
SMD CHIP Oscillator Rather 12.288MHz 30p; MFG Part: SMD3225; SAP: T690900001400; MFG: SIWARD; CREATE_NAME: GordonL@Deftronics; Vendor Code: *; Vendor Name: *; Type: Crystal; CREATE_TIME: 28-May-2014; DIP&SMD: SMD
footprint SMD3225 (CHIP OSCILLATOR SMD3225\3.2*2.5MM)
pins: 1 EN, 2 GND, 3 OUT, 4 VDD

## SMD3225-12.288MHZ_D3SX12E0X0007E
designator Y?  Frequency: 12.288MHZ  (hidden comment: *)
OSCILATOR 12.288MH SMD D3SX12E0X0007E; MFG: HOSONIC; CREATE_NAME: Nathan; SAP: *; MFG Part: D3SX12E0X0007E; Vendor Code: *; Vendor Name: *; Type: Crystal; CREATE_TIME: 10-SEP-2020; DIP&SMD: SMD
footprint SMD3225 (CHIP OSCILLATOR SMD3225\3.2*2.5MM)
pins: 1 E/D, 2 GND, 3 OUT, 4 VDD

## SMD3225-12.288MHz_KC3225K12.2880C1GE00
designator Y?  value 12.288MHz  (hidden comment: *)
SMD CHIP Oscillator Rather 12.288MHz; MFG Part: KC3225K12.2880C1GE00; MFG: KYOCERA; CREATE_NAME: Nathan; SAP: *; Vendor Code: *; Vendor Name: *; Type: Crystal; CREATE_TIME: 06-Jul-2020; DIP&SMD: SMD
footprint SMD3225 (CHIP OSCILLATOR SMD3225\3.2*2.5MM)
pins: 1 INH, 2 GND, 3 OUT, 4 VCC

## SMD3225-12.288MHZ_TXC 7X1220
designator Y?, comment Frequency: 12.288MHZ  (hidden comment: T690900009000)
OSCILATOR 12.288MHZ SMD TXC 7X1220 K; MFG Part: 7X12200005; CREATE_NAME: Tom; SAP: T690900009000; MFG: TXC; Vendor Code: *; Vendor Name: *; Type: Crystal; CREATE_TIME: 06-Dec-2017; DIP&SMD: SMD
footprint SMD3225 (CHIP OSCILLATOR SMD3225\3.2*2.5MM)
pins: 1 OE, 2 GND, 3 OUT, 4 VDD

## SMD3225-12MHz_DSCB12.0000ENS
designator Y?  Frequency: 12MHz  (hidden comment: *)
CRYSTA 12.000MH SMD HOSONI DSCB12 L; MFG Part: DSCB12.0000ENS; MFG: Hosonic; CREATE_NAME: Nathan; SAP: *; Vendor Code: *; Vendor Name: *; Frequency Tolerance: *; Type: OSC; CREATE_TIME: 08-Jul-2020; DIP&SMD: SMD
footprint SMD3225 (CHIP OSCILLATOR SMD3225\3.2*2.5MM)
pins: 1 Tri-State, 2 GND, 3 OUT, 4 VDD

## SMD3225-20.25MHz
designator Y?  Capacitance: 8pF  Frequency: 20.25MHz  (hidden comment: *)
CHIP CRYSTAL 20.25MHz 15ppm XTAL3.2*2.5; MFG Part: 7V20200002; SAP: T690900004200; MFG: TXC; Frequency Tolerance: +/-15ppm; Eqivalent resistance: 50 ohm max.; CREATE_NAME: Nathan; DIP&SMD: SMD; Vendor Code: *; Vendor Name: *; Type: Crystal; CREATE_TIME: 06-AUG-2014
footprint SMD3225 (CHIP OSCILLATOR SMD3225\3.2*2.5MM)
pins: 1, 2 GND, 3, 4 GND

## SMD3225-24.576MHz_TXC_7X24500037
designator Y?, comment Frequency: 24.576MHz  (hidden comment: T690900014800)
OSC 24.576MH SMD TXC 7X2450 K; MFG Part: 7X24500037; Frequency Tolerance: +/-10ppm; CREATE_NAME: Nathan; SAP: T690900014800; MFG: TXC; Vendor Code: *; Vendor Name: *; Type: OSC; CREATE_TIME: 06-Mar-2018; DIP&SMD: SMD
footprint SMD3225 (CHIP OSCILLATOR SMD3225\3.2*2.5MM)
pins: 1 OE, 2 GND, 3 OUT, 4 VDD

## SMD3225-24MHz_TXC
designator Y?, comment Frequency: 24.000000MHz  (hidden comment: T690900008800)
CRYSTAL 24MHZ SMD TXC 7M2400 G; MFG Part: 7M24000034; CREATE_NAME: Nathan; SAP: T690900008800; Vendor Code: *; Vendor Name: *; MFG: TXC; Type: Crystal; CREATE_TIME: 30-May-2016; DIP&SMD: SMD
footprint SMD3225 (CHIP OSCILLATOR SMD3225\3.2*2.5MM)
pins: 1, 2 GND, 3, 4 GND

## SMD3225-25MHz_E3SB25E00005KE
designator Y?  Frequency: 25MHz
CRISTAL 25MHZ SMD E3SB25E00005KE; MFG: Hosonic; Frequency Tolerance: +/-10ppm; CREATE_NAME: Nathan; SAP: *; MFG Part: E3SB25E00005KE; Vendor Code: *; Vendor Name: *; Type: Crystal; CREATE_TIME: 05-Nov-2020; DIP&SMD: SMD
footprint SMD3225 (CHIP OSCILLATOR SMD3225\3.2*2.5MM)
pins: 1, 2 GND, 3, 4 GND

## SMD3225-25MHz_TXC_7M25000088
designator Y?  Frequency: 25MHz
CRISTAL 25MHZ SMD TXC 7M25000088; Frequency Tolerance: +/-10ppm; CREATE_NAME: Nathan; SAP: *; MFG Part: 7M25000088; MFG: TXC; Vendor Code: *; Vendor Name: *; Type: Crystal; CREATE_TIME: 05-Nov-2020; DIP&SMD: SMD
footprint SMD3225 (CHIP OSCILLATOR SMD3225\3.2*2.5MM)
pins: 1, 2 GND, 3, 4 GND

## SMD3225-50MHz_D3SX50E000002E
designator Y?  Frequency: 50MHz
CRISTAL 50MHZ SMD D3SX50E000002E; MFG: HOSONIC; CREATE_NAME: Nathan; SAP: *; MFG Part: D3SX50E000002E; Vendor Code: *; Vendor Name: *; Frequency Tolerance: *; Type: Crystal; CREATE_TIME: 23-Apr-2021; DIP&SMD: SMD
footprint SMD3225 (CHIP OSCILLATOR SMD3225\3.2*2.5MM)
pins: 1 E/D, 2 GND, 3 OUT, 4 VDD

## SMD3225-50MHz_TXC_7X50000021
designator Y?, comment Frequency: 50MHz  (hidden comment: T690900017500)
CRISTAL 50MHZ SMD TXC 7X5000 K; MFG Part: 7X50000021; Frequency Tolerance: +/-10ppm; CREATE_NAME: Nathan; SAP: T690900017500; MFG: TXC; Vendor Code: *; Vendor Name: *; Type: Crystal; CREATE_TIME: 11-OCT-2018; DIP&SMD: SMD
footprint SMD3225 (CHIP OSCILLATOR SMD3225\3.2*2.5MM)
pins: 1 OE, 2 GND, 3 OUT, 4 VDD

## SX-3225 12.288 MHz
designator Y?, comment Frequency: 12.288MHz  (hidden comment: T690900008000)
CRYSTAL 12.288MH SMD SIWARD SX-322 G; MFG Part: SX-3225; CREATE_NAME: Tom; SAP: T690900008000; MFG: SIWARD; Vendor Code: *; Vendor Name: *; Type: Crystal; CREATE_TIME: 16-Mar-2016; DIP&SMD: SMD
footprint SMD3225 (CHIP OSCILLATOR SMD3225\3.2*2.5MM)
pins: 1, 2 GND, 3, 4 GND

## T0152-X-011-3 XY25M
designator U?, comment T690900006000  (value not drawn)
CHIP CRISTAL 25MHZ SMD TAITIE XYGEEC G; MFG Part: T0152-X-011-3 XY25M; CREATE_Name: Tom; MFG: TAITIEN; TIPE: Crystal; CREATE_Time: 07-Jul-2015; SAP: T690900006000; Value: *; Vendor Code: *; Vendor Name: *; VALUE: 25MHz; DIP&SMD: SMD
footprint SMD2520 (OSC Body 2.5mm X 2.0mm)
pins: 1, 2 GND, 3, 4 GND

## TSMV-H25HM33RT2E-24.576M-TR
designator Y?  Frequency: 24.576MHZ
TSMV-H25HM33RT2E-24.576M-TR; MFG: Transko Electronics; CREATE_NAME: Nathan; DIP&SMD: SMD; SAP: *; MFG Part: TSMV-H25HM33RT2E-24.576M-TR; Vendor Code: *; Vendor Name: *; Frequency Tolerance: *; Eqivalent resistance: *; Type: Crystal; Capacitance: *; CREATE_TIME: 20-Jan-2021
footprint SMD_6P_7.0X5.0X2.0mm (VCXO STANDARD CERAMIC SMD (7.0X5.0X2.0mm))
pins: 1 Vc, 2 En/Dis, 3 GND, 4 Output, 5 NC, 6 VDD

## U54-128_4.9152 MHz
designator Y?, comment Frequency: 4.9152 MHz  (hidden comment: T690900007000)
CRISTAL 4.9152 MHz+30ppm SMD49S; MFG Part: U54-128; MFG: SIWARD; Frequency Tolerance: +30ppm; CREATE_NAME: Tom; DIP&SMD: SMD; SAP: T690900007000; Vendor Code: *; Vendor Name: *; Eqivalent resistance: *; Type: Crystal; CREATE_TIME: 29-Oct-2015; Capacitance: *
footprint SMD49S (OSC Body 12.1mm X 4.8mm)
pins: 1, 2

## XTL251300-T114-023 25MHz
designator Y?, comment Frequency: 25MHz  (hidden comment: T690900005900)
OSCILATOR 25MHZ 4 SMD SIWARD XTL251 G; MFG Part: XTL251300-T114-023; CREATE_NAME: Tom; SAP: T690900005900; MFG: SIWARD; Frequency Tolerance: *; Eqivalent resistance: *; Type: Crystal; CREATE_TIME: 01-Sep-2017; Capacitance: *; DIP&SMD: SMD
footprint SMD49S (OSC Body 12.1mm X 4.8mm)
pins: 1, 2